# EAGLE library part STM32F412REY6TR (library STM32F412REY6TR)
MCU 32-bit STM32F ARM Cortex M4 RISC 512KB Flash 3.3V 64-Pin WLCSP T/R Source: Datasheet <http://www.st.com/content/ccc/resource/technical/document/datasheet/15/90/07/b3/8c/10/4e/95/DM00213872.pdf/files/DM00213872.pdf/jcr:content/translations/en.DM00213872.pdf>
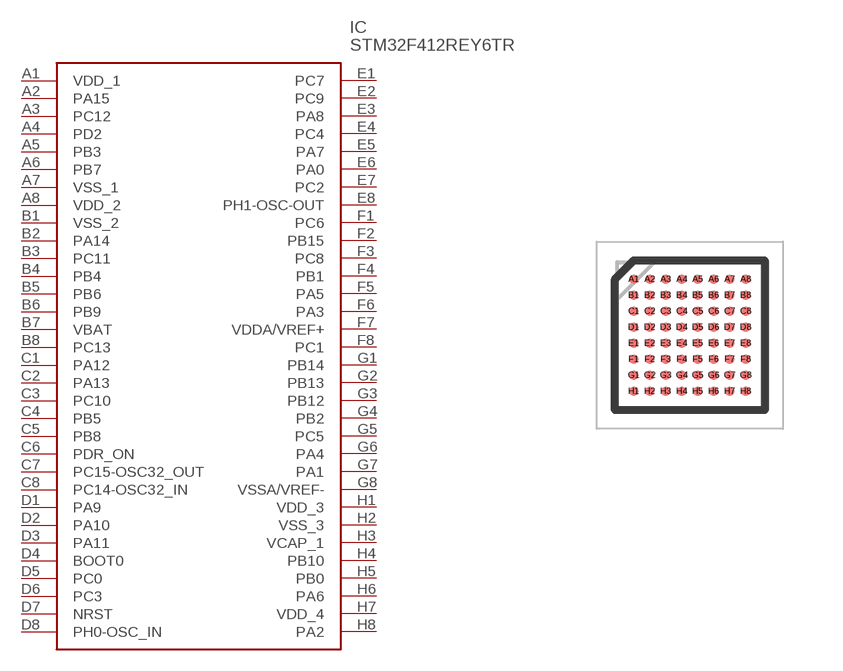
[diagram p0: symbol with the pads of BGA64C40P8X8_362X365X58; footprint BGA64C40P8X8_362X365X58]

Designator prefix IC

## STM32F412REY6TR (Arrow_Part_Number: STM32F412REY6TR; Arrow_Price-Stock: https://www.arrow.com/en/products/stm32f412rey6tr/stmicroelectronics; Description: MCU 32-bit STM32F ARM Cortex M4 RISC 512KB Flash 3.3V 64-Pin WLCSP T/R; Height: 0.585mm; Manufacturer_Name: STMicroelectronics; Manufacturer_Part_Number: STM32F412REY6TR; Mouser_Part_Number: 511-STM32F412REY6TR; Mouser_Price-Stock: https://www.mouser.co.uk/ProductDetail/STMicroelectronics/STM32F412REY6TR?qs=qzCNEk%252BRr%252BY9qzpOClZyHQ%3D%3D)  [BGA64C40P8X8_362X365X58]
A1  VDD_1
A2  PA15
A3  PC12
A4  PD2
A5  PB3
A6  PB7
A7  VSS_1
A8  VDD_2
B1  VSS_2
B2  PA14
B3  PC11
B4  PB4
B5  PB6
B6  PB9
B7  VBAT
B8  PC13
C1  PA12
C2  PA13
C3  PC10
C4  PB5
C5  PB8
C6  PDR_ON
C7  PC15-OSC32_OUT
C8  PC14-OSC32_IN
D1  PA9
D2  PA10
D3  PA11
D4  BOOT0
D5  PC0
D6  PC3
D7  NRST
D8  PH0-OSC_IN
E1  PC7
E2  PC9
E3  PA8
E4  PC4
E5  PA7
E6  PA0
E7  PC2
E8  PH1-OSC-OUT
F1  PC6
F2  PB15
F3  PC8
F4  PB1
F5  PA5
F6  PA3
F7  VDDA/VREF+
F8  PC1
G1  PB14
G2  PB13
G3  PB12
G4  PB2
G5  PC5
G6  PA4
G7  PA1
G8  VSSA/VREF-
H1  VDD_3
H2  VSS_3
H3  VCAP_1
H4  PB10
H5  PB0
H6  PA6
H7  VDD_4
H8  PA2

## Footprint BGA64C40P8X8_362X365X58 (pad centres in mm)
WLCSP643.658 x 3.686 mm
smd 0.242 x 0.242: A1 -1.4,1.4; A2 -1,1.4; A3 -0.6,1.4; A4 -0.2,1.4; A5 0.2,1.4; A6 0.6,1.4; A7 1,1.4; A8 1.4,1.4; B1 -1.4,1; B2 -1,1; B3 -0.6,1; B4 -0.2,1; B5 0.2,1; B6 0.6,1; B7 1,1; B8 1.4,1; C1 -1.4,0.6; C2 -1,0.6; C3 -0.6,0.6; C4 -0.2,0.6; C5 0.2,0.6; C6 0.6,0.6; C7 1,0.6; C8 1.4,0.6; D1 -1.4,0.2; D2 -1,0.2; D3 -0.6,0.2; D4 -0.2,0.2; D5 0.2,0.2; D6 0.6,0.2; D7 1,0.2; D8 1.4,0.2; E1 -1.4,-0.2; E2 -1,-0.2; E3 -0.6,-0.2; E4 -0.2,-0.2; E5 0.2,-0.2; E6 0.6,-0.2; E7 1,-0.2; E8 1.4,-0.2; F1 -1.4,-0.6; F2 -1,-0.6; F3 -0.6,-0.6; F4 -0.2,-0.6; F5 0.2,-0.6; F6 0.6,-0.6; F7 1,-0.6; F8 1.4,-0.6; G1 -1.4,-1; G2 -1,-1; G3 -0.6,-1; G4 -0.2,-1; G5 0.2,-1; G6 0.6,-1; G7 1,-1; G8 1.4,-1; H1 -1.4,-1.4; H2 -1,-1.4; H3 -0.6,-1.4; H4 -0.2,-1.4; H5 0.2,-1.4; H6 0.6,-1.4; H7 1,-1.4; H8 1.4,-1.4